# Altium schematic symbol library test_lib.SchLib: 46 symbols
Pins are listed as number, name and electrical type; pins without a type are passive.

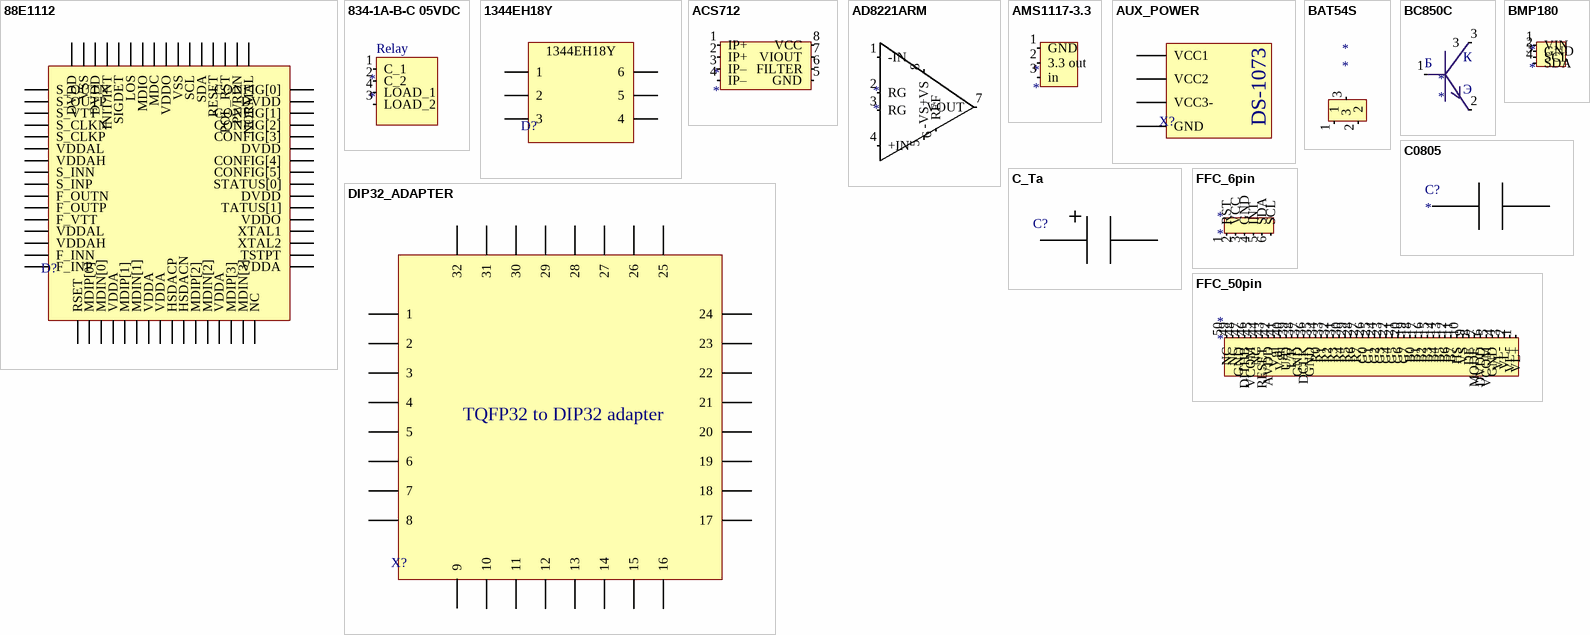
[diagram p0: symbols 88E1112 to FFC_50pin]

## 88E1112
designator D?  (value not drawn)
PHY Ethernet Transceiver
footprint 88E1112 (Ethernet Transceiver)
pins: 1 S_OUTN, 2 S_OUTP, 3 S_VTT, 4 S_CLKN, 5 S_CLKP, 6 VDDAL, 7 VDDAH, 8 S_INN, 9 S_INP, 10 F_OUTN, 11 F_OUTP, 12 F_VTT, 13 VDDAL, 14 VDDAH, 15 F_INN, 16 F_INP, 17 RSET, 18 MDIP[0], 19 MDIN[0], 20 VDDA, 21 MDIP[1], 22 MDIN[1], 23 VDDA, 24 VDDA, 25 HSDACP, 26 HSDACN, 27 MDIP[2], 28 MDIN[2], 29 VDDA, 30 MDIP[3], 31 MDIN[3], 32 NC, 33 VDDA, 34 TSTPT, 35 XTAL2, 36 XTAL1, 37 VDDO, 38 TATUS[1], 39 DVDD, 40 STATUS[0], 41 CONFIG[5], 42 CONFIG[4], 43 DVDD, 44 CONFIG[3], 45 CONFIG[2], 46 CONFIG[1], 47 DVDD, 48 CONFIG[0], 49 NORMAL, 50 PWRDN, 51 POL_RST, 52 RESET, 53 SDA, 54 SCL, 55 VSS, 56 VDDO, 57 MDC, 58 MDIO, 59 LOS, 60 SIGDET, 61 INIT/INT, 62 DVDD, 63 VSS, 64 DVDD

## 834-1A-B-C 05VDC
designator *
Relay 5V 12A
footprint 834-1A-B-C 05VDC (Relay 5B 10A)
pins: 1 C_1, 2 C_2, 3 LOAD_2, 4 LOAD_1
text: Relay

## 1344EH18Y
designator D?
footprint 1344EH18Y
pins: 1, 2, 3, 4, 5, 6

## ACS712
designator *
Fully Integrated, Hall Effect-Based Linear Current Sensor
footprint SOIC-8 (SOIC, 8-Leads, Body 4,90x3,90mm, Pitch 1,27mm, IPC Medium Density)
pins: 1 IP+, 2 IP+, 3 IP–, 4 IP–, 5 GND, 6 FILTER, 7 VIOUT, 8 VCC

## AD8221ARM
designator *
pins: 1 -IN, 2 RG, 3 RG, 4 +IN, 5 -VS, 6 REF, 7 VOUT, 8 +VS

## AMS1117-3.3
designator *
LDO 3.3V 0.8A
pins: 1 GND, 2 3.3 out, 3 in

## AUX_POWER
designator X?  (value not drawn)
auxiliary power port
footprint AUX_POWER (auxiliary power port)
pins: 1 VCC1, 2 VCC2, 3 VCC3-, 4 GND
text: DS-1073

## BAT54S
designator *
footprint sot23
pins: 1, 2, 3

## BC850C
designator *
The BC850C is a NPN general purpose Transistor with 3 leads.
pins: 1 B, 2, 3
text: К; Б; Э

## BMP180
designator *
Pressure sensor
footprint PLS-4
pins: 1 VIN, 2 GND, 3 SCL, 4 SDA

## C0805
designator C?
0805 ceramic capacitor; Capacity: *
footprint 0805
pins: 1, 2

## C_Ta
designator C?  (value not drawn)
tantalum capacitor
footprint C_Ta
pins: 1, 2

## DIP32_ADAPTER
designator X?  (value not drawn)
footprint DIP_ADAPTER
pins: 1, 2, 3, 4, 5, 6, 7, 8, 9, 10, 11, 12, 13, 14, 15, 16, 17, 18, 19, 20, 21, 22, 23, 24, 25, 26, 27, 28, 29, 30, 31, 32
text: TQFP32 to DIP32 adapter

## FFC_6pin
designator *
pins: 1 RST, 2 VCC, 3 GND, 4 INT, 5 SDA, 6 SCL

## FFC_50pin
designator *
footprint FFC_50pin (display connector)
pins: 1 VL+, 2 VL+, 3 VL-, 4 VL-, 5 GND, 6 VCOM, 7 DVDD, 8 MODE, 9 DE, 10 VS, 11 HS, 12 B7, 13 B6, 14 B5, 15 B4, 16 B3, 17 B2, 18 B1, 19 B0, 20 G7, 21 G6, 22 G5, 23 G4, 24 G3, 25 G2, 26 G1, 27 G0, 28 R7, 29 R6, 30 R5, 31 R4, 32 R3, 33 R2, 34 R1, 35 R0, 36 GND, 37 DCLK, 38 GND, 39 L/R, 40 U/D, 41 Vgh, 42 Vgl, 43 AVDD, 44 RESET, 45 NC, 46 VCOM, 47 DITHB, 48 GND, 49 NC, 50 NC

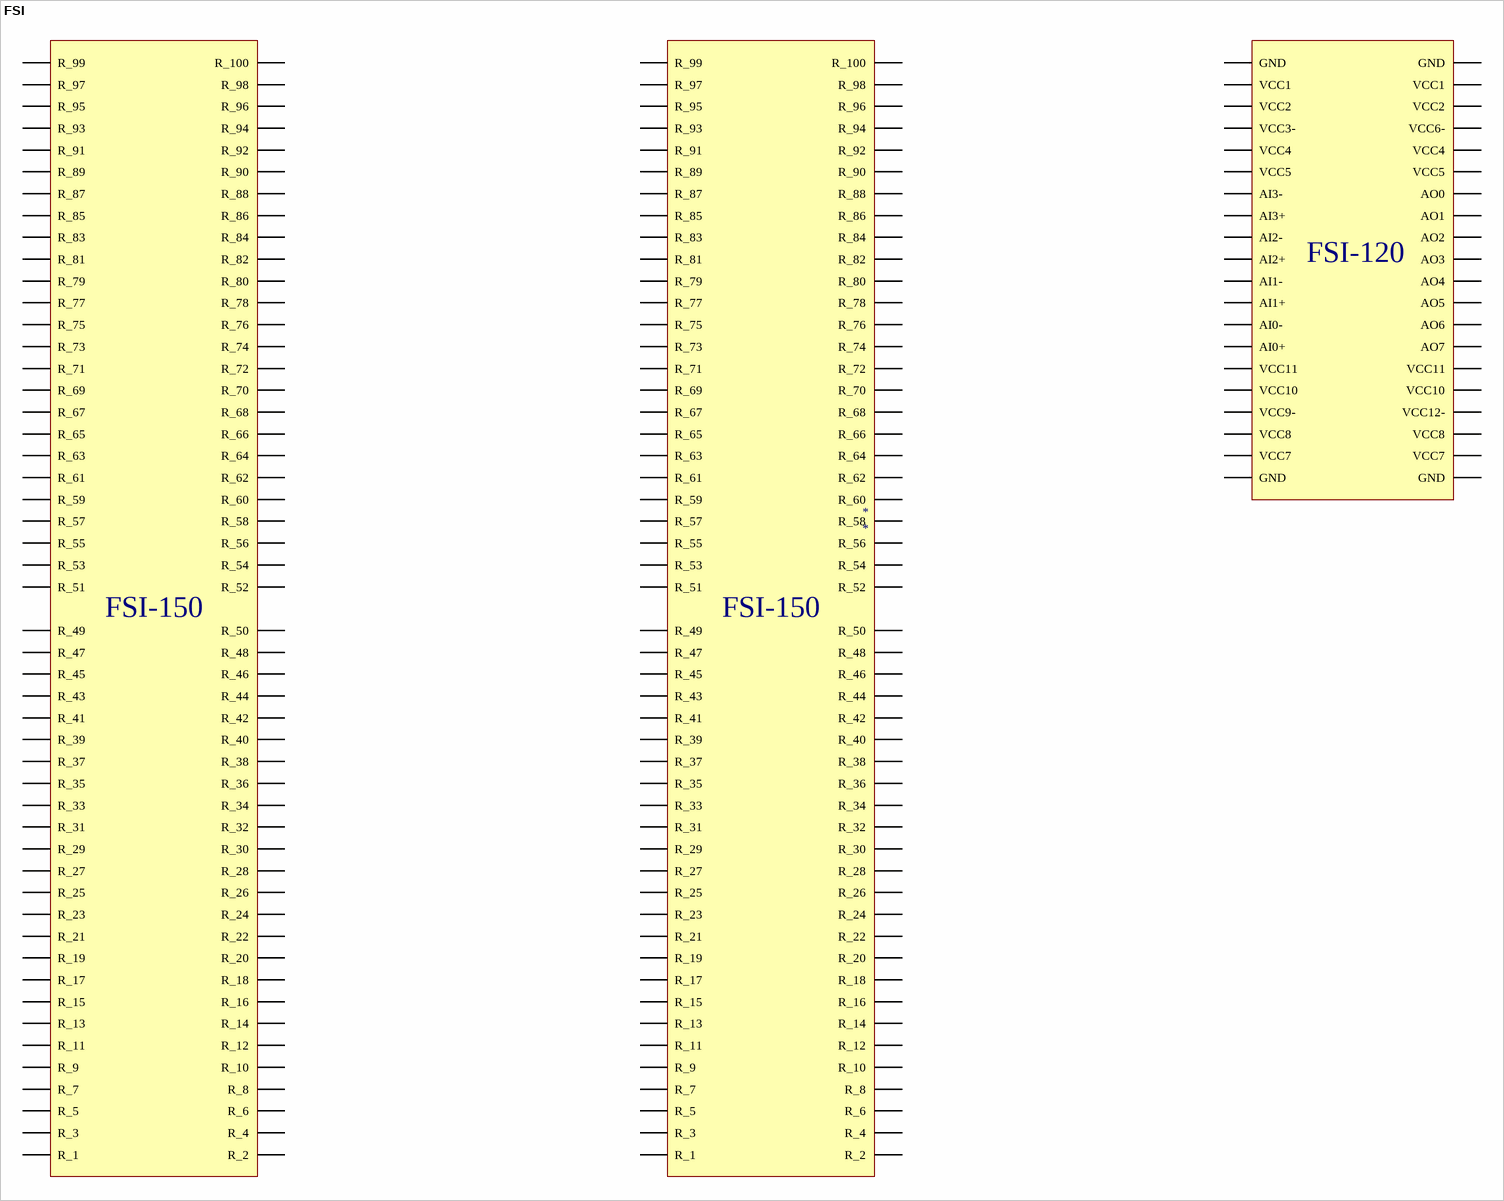
[diagram p1: symbol FSI]

## FSI
designator *
footprint FSI
pins: 1 GND, 2 VCC7, 3 VCC8, 4 VCC9-, 5 VCC10, 6 VCC11, 7 AI0+, 8 AI0-, 9 AI1+, 10 AI1-, 11 AI2+, 12 AI2-, 13 AI3+, 14 AI3-, 15 VCC5, 16 VCC4, 17 VCC3-, 18 VCC2, 19 VCC1, 20 GND, 21 GND, 22 VCC1, 23 VCC2, 24 VCC6-, 25 VCC4, 26 VCC5, 27 AO0, 28 AO1, 29 AO2, 30 AO3, 31 AO4, 32 AO5, 33 AO6, 34 AO7, 35 VCC11, 36 VCC10, 37 VCC7, 38 VCC8, 39 VCC12-, 40 GND, 41 R_1, 42 R_2, 43 R_3, 44 R_4, 45 R_5, 46 R_6, 47 R_7, 48 R_8, 49 R_9, 50 R_10, 51 R_11, 52 R_12, 53 R_13, 54 R_14, 55 R_15, 56 R_16, 57 R_17, 58 R_18, 59 R_19, 60 R_20, 61 R_21, 62 R_22, 63 R_23, 64 R_24, 65 R_25, 66 R_26, 67 R_27, 68 R_28, 69 R_29, 70 R_30, 71 R_31, 72 R_32, 73 R_33, 74 R_34, 75 R_35, 76 R_36, 77 R_37, 78 R_38, 79 R_39, 80 R_40, 81 R_41, 82 R_42, 83 R_43, 84 R_44, 85 R_45, 86 R_46, 87 R_47, 88 R_48, 89 R_49, 90 R_50, 91 R_51, 92 R_52, 93 R_53, 94 R_54, 95 R_55, 96 R_56, 97 R_57, 98 R_58, 99 R_59, 100 R_60, 101 R_61, 102 R_62, 103 R_63, 104 R_64, 105 R_65, 106 R_66, 107 R_67, 108 R_68, 109 R_69, 110 R_70, 111 R_71, 112 R_72, 113 R_73, 114 R_74, 115 R_75, 116 R_76, 117 R_77, 118 R_78, 119 R_79, 120 R_80, 121 R_81, 122 R_82, 123 R_83, 124 R_84, 125 R_85, 126 R_86, 127 R_87, 128 R_88, 129 R_89, 130 R_90, 131 R_91, 132 R_92, 133 R_93, 134 R_94, 135 R_95, 136 R_96, 137 R_97, 138 R_98, 139 R_99, 140 R_100, 141 R_1, 142 R_2, 143 R_3, 144 R_4, 145 R_5, 146 R_6, 147 R_7, 148 R_8, 149 R_9, 150 R_10, 151 R_11, 152 R_12, 153 R_13, 154 R_14, 155 R_15, 156 R_16, 157 R_17, 158 R_18, 159 R_19, 160 R_20, 161 R_21, 162 R_22, 163 R_23, 164 R_24, 165 R_25, 166 R_26, 167 R_27, 168 R_28, 169 R_29, 170 R_30, 171 R_31, 172 R_32, 173 R_33, 174 R_34, 175 R_35, 176 R_36, 177 R_37, 178 R_38, 179 R_39, 180 R_40, 181 R_41, 182 R_42, 183 R_43, 184 R_44, 185 R_45, 186 R_46, 187 R_47, 188 R_48, 189 R_49, 190 R_50, 191 R_51, 192 R_52, 193 R_53, 194 R_54, 195 R_55, 196 R_56, 197 R_57, 198 R_58, 199 R_59, 200 R_60, 201 R_61, 202 R_62, 203 R_63, 204 R_64, 205 R_65, 206 R_66, 207 R_67, 208 R_68, 209 R_69, 210 R_70, 211 R_71, 212 R_72, 213 R_73, 214 R_74, 215 R_75, 216 R_76, 217 R_77, 218 R_78, 219 R_79, 220 R_80, 221 R_81, 222 R_82, 223 R_83, 224 R_84, 225 R_85, 226 R_86, 227 R_87, 228 R_88, 229 R_89, 230 R_90, 231 R_91, 232 R_92, 233 R_93, 234 R_94, 235 R_95, 236 R_96, 237 R_97, 238 R_98, 239 R_99, 240 R_100
text: FSI-120; FSI-150

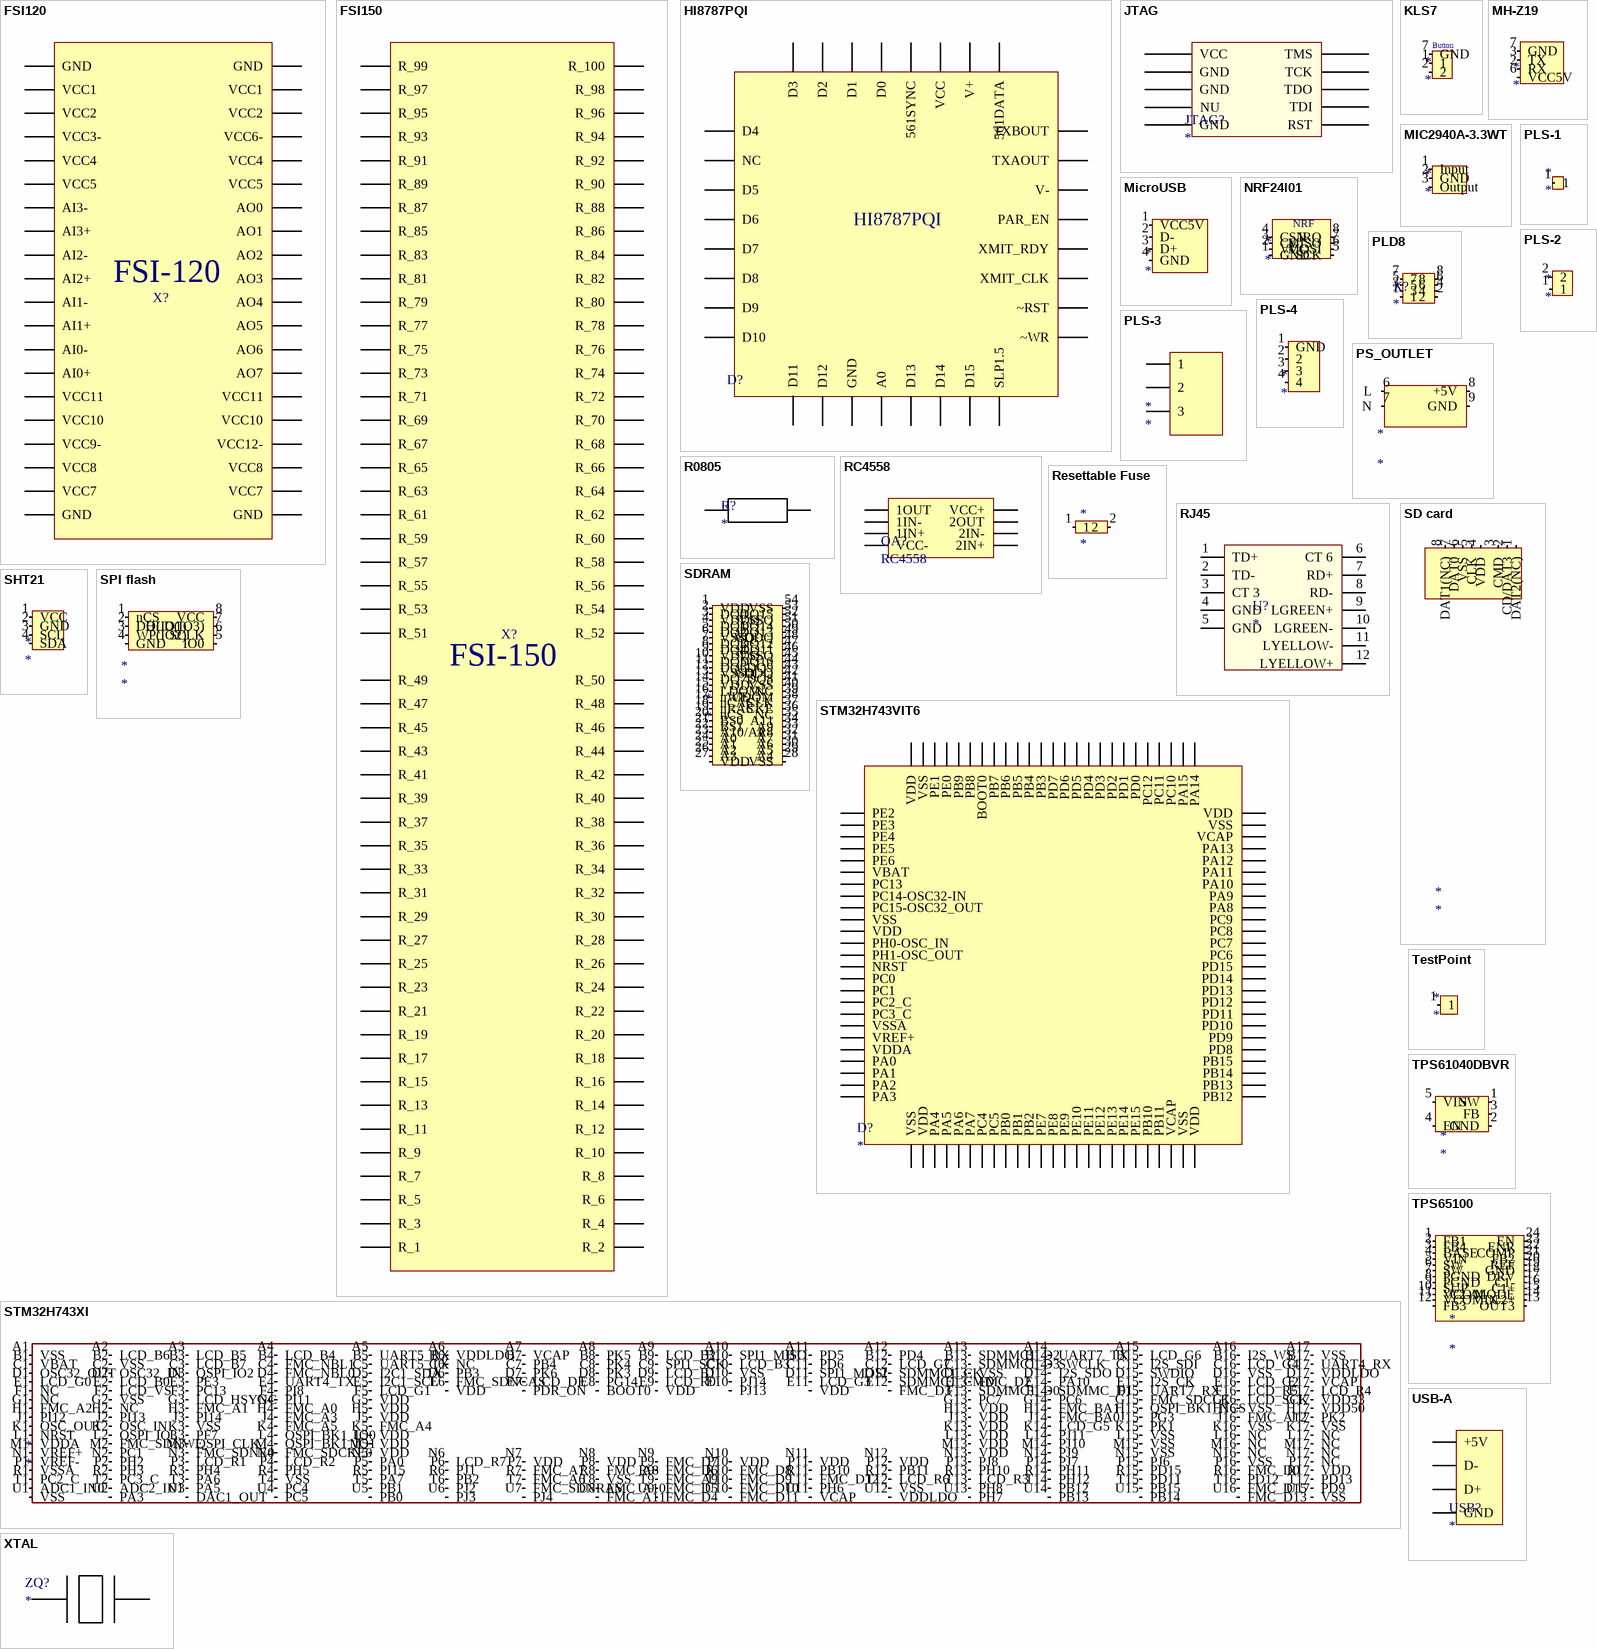
[diagram p2: symbols FSI120 to XTAL]

## FSI120
designator X?  (value not drawn)
footprint FSI-120
pins: 1 GND, 2 VCC7, 3 VCC8, 4 VCC9-, 5 VCC10, 6 VCC11, 7 AI0+, 8 AI0-, 9 AI1+, 10 AI1-, 11 AI2+, 12 AI2-, 13 AI3+, 14 AI3-, 15 VCC5, 16 VCC4, 17 VCC3-, 18 VCC2, 19 VCC1, 20 GND, 21 GND, 22 VCC1, 23 VCC2, 24 VCC6-, 25 VCC4, 26 VCC5, 27 AO0, 28 AO1, 29 AO2, 30 AO3, 31 AO4, 32 AO5, 33 AO6, 34 AO7, 35 VCC11, 36 VCC10, 37 VCC7, 38 VCC8, 39 VCC12-, 40 GND
text: FSI-120

## FSI150
designator X?  (value not drawn)
footprint FSI-150
pins: R_1, R_2, R_3, R_4, R_5, R_6, R_7, R_8, R_9, R_10, R_11, R_12, R_13, R_14, R_15, R_16, R_17, R_18, R_19, R_20, R_21, R_22, R_23, R_24, R_25, R_26, R_27, R_28, R_29, R_30, R_31, R_32, R_33, R_34, R_35, R_36, R_37, R_38, R_39, R_40, R_41, R_42, R_43, R_44, R_45, R_46, R_47, R_48, R_49, R_50, R_51, R_52, R_53, R_54, R_55, R_56, R_57, R_58, R_59, R_60, R_61, R_62, R_63, R_64, R_65, R_66, R_67, R_68, R_69, R_70, R_71, R_72, R_73, R_74, R_75, R_76, R_77, R_78, R_79, R_80, R_81, R_82, R_83, R_84, R_85, R_86, R_87, R_88, R_89, R_90, R_91, R_92, R_93, R_94, R_95, R_96, R_97, R_98, R_99, R_100
text: FSI-150

## HI8787PQI
designator D?  (value not drawn)
footprint HI8787PQI
pins: 1 D4, 2 NC, 3 D5, 4 D6, 5 D7, 6 D8, 7 D9, 8 D10, 9 D11, 10 D12, 11 GND, 12 A0, 13 D13, 14 D14, 15 D15, 16 SLP1.5, 17 ~WR, 18 ~RST, 19 XMIT_CLK, 20 XMIT_RDY, 21 PAR_EN, 22 V-, 23 TXAOUT, 24 TXBOUT, 25 561DATA, 26 V+, 27 VCC, 28 561SYNC, 29 D0, 30 D1, 31 D2, 32 D3

## JTAG
designator JTAG?
jtag pld
footprint JTAG_PLD
footprint PLD-8 (2.54)
pins: 1 VCC, 2 TMS, 3 GND, 4 TCK, 5 GND, 6 TDO, 7 NU, 8 TDI, 9 GND, 10 RST

## KLS7
designator *
footprint angle_button (KLS7-TS6606)
pins: 1, 2, 7 GND
text: Button

## MH-Z19
designator *
footprint MH-Z19 (Infrared CO2 Module)
pins: 2 RX, 3 TX, 6 VCC5V, 7 GND

## MIC2940A-3.3WT
designator *
1.25A Low Dropout Voltage Regulator
footprint PLS-3
pins: 1 Input, 2 GND, 3 Output

## MicroUSB
designator *
KLS1-233-0-0-1-T
footprint MICRO_USB (smd micro usb connector)
pins: 1 VCC5V, 2 D-, 3 D+, 4 GND

## NRF24l01
designator *
RF module
footprint PLD-8 (2.54)
pins: 1 GND, 2 VCC, 3 CE, 4 CSN, 5 SCK, 6 MOSI, 7 MISO, 8 IRQ
text: NRF

## PLD8
designator X?
footprint PLD-8 (2.54)
pins: 1, 2, 3, 4, 5, 6, 7, 8

## PLS-1
designator *
footprint pls-1
pins: 1

## PLS-2
designator *
footprint PLS-2
pins: 1, 2

## PLS-3
designator *
footprint PLS-3
pins: 1, 2, 3

## PLS-4
designator *
footprint PLS-4
pins: 1 GND, 2, 3, 4

## PS_OUTLET
designator *
footprint PS_OUTLET
pins: 6 L, 7 N, 8 +5V, 9 GND

## R0805
designator R?
0805 resistor; Resistance: *
footprint 0805
pins: 1, 2

## RC4558
designator OA?
opamp, ssop8 package
footprint RC4558 (TSOP, 8-Leads, RC4558 operation amplifier)
pins: 1 1OUT, 2 1IN-, 3 1IN+, 4 VCC-, 5 2IN+, 6 2IN-, 7 2OUT, 8 VCC+

## Resettable Fuse
designator *
MF-MSMF Series
footprint Resettable Fuse (MF-MSMF)
pins: 1, 2

## RJ45
designator U?
footprint KLS12-TL051 (RJ45 with magnetics)
pins: 1 TD+, 2 TD-, 3 CT 3, 4 GND, 5 GND, 6 CT 6, 7 RD+, 8 RD-, 9 LGREEN+, 10 LGREEN-, 11 LYELLOW-, 12 LYELLOW+

## SD card
designator *
footprint microSDconn (7MSDH-F0-1012)
pins: 1 DAT2(NC), 2 CD/DAT3, 3 CMD, 4 VDD, 5 CLK, 6 VSS, 7 DAT0, 8 DAT1(NC)

## SDRAM
designator *
W9812G6KH
footprint SDRAM TSOP2 (W9812G6KH)
pins: 1 VDD, 2 DQ0, 3 VDDQ, 4 DQ1, 5 DQ2, 6 VSSQ, 7 DQ3, 8 DQ4, 9 VDDQ, 10 DQ5, 11 DQ6, 12 VSSQ, 13 DQ7, 14 VDD, 15 LDQM, 16 nWE, 17 nCAS, 18 nRAS, 19 nCS, 20 BS0, 21 BS1, 22 A10/AP, 23 A0, 24 A1, 25 A2, 26 A3, 27 VDD, 28 VSS, 29 A4, 30 A5, 31 A6, 32 A7, 33 A8, 34 A9, 35 A11, 36 NC, 37 CKE, 38 CLK, 39 UDQM, 40 NC, 41 VSS, 42 DQ8, 43 VDDQ, 44 DQ9, 45 DQ10, 46 VSSQ, 47 DQ11, 48 DQ12, 49 VDDQ, 50 DQ13, 51 DQ14, 52 VSSQ, 53 DQ15, 54 VSS

## SHT21
designator *
Temp and hum i2c sensor
footprint PLS-4
pins: 1 VCC, 2 GND, 3 SCL, 4 SDA

## SPI flash
designator *
footprint SOP127P600-8N (spi flash)
pins: 1 nCS, 2 DO(IO1), 3 WP(IO2), 4 GND, 5 IO0, 6 SCLK, 7 HLD(IO3), 8 VCC

## STM32H743VIT6
designator D?
32-bit cortex m7 uc
footprint STM32H743VIT6 (cortex m7 uc)
pins: 1 PE2, 2 PE3, 3 PE4, 4 PE5, 5 PE6, 6 VBAT, 7 PC13, 8 PC14-OSC32-IN, 9 PC15-OSC32_OUT, 10 VSS, 11 VDD, 12 PH0-OSC_IN, 13 PH1-OSC_OUT, 14 NRST, 15 PC0, 16 PC1, 17 PC2_C, 18 PC3_C, 19 VSSA, 20 VREF+, 21 VDDA, 22 PA0, 23 PA1, 24 PA2, 25 PA3, 26 VSS, 27 VDD, 28 PA4, 29 PA5, 30 PA6, 31 PA7, 32 PC4, 33 PC5, 34 PB0, 35 PB1, 36 PB2, 37 PE7, 38 PE8, 39 PE9, 40 PE10, 41 PE11, 42 PE12, 43 PE13, 44 PE14, 45 PE15, 46 PB10, 47 PB11, 48 VCAP, 49 VSS, 50 VDD, 51 PB12, 52 PB13, 53 PB14, 54 PB15, 55 PD8, 56 PD9, 57 PD10, 58 PD11, 59 PD12, 60 PD13, 61 PD14, 62 PD15, 63 PC6, 64 PC7, 65 PC8, 66 PC9, 67 PA8, 68 PA9, 69 PA10, 70 PA11, 71 PA12, 72 PA13, 73 VCAP, 74 VSS, 75 VDD, 76 PA14, 77 PA15, 78 PC10, 79 PC11, 80 PC12, 81 PD0, 82 PD1, 83 PD2, 84 PD3, 85 PD4, 86 PD5, 87 PD6, 88 PD7, 89 PB3, 90 PB4, 91 PB5, 92 PB6, 93 PB7, 94 BOOT0, 95 PB8, 96 PB9, 97 PE0, 98 PE1, 99 VSS, 100 VDD

## STM32H743XI
designator *
footprint STM32H742xI (TFBGA240+25)
pins: A1 VSS, A2 LCD_B6, A3 LCD_B5, A4 LCD_B4, A5 UART5_RX, A6 VDDLDO, A7 VCAP, A8 PK5, A9 LCD_B2, A10 SPI1_MISO, A11 PD5, A12 PD4, A13 SDMMC1_D2, A14 UART7_TX, A15 LCD_G6, A16 I2S_WS, A17 VSS, B1 VBAT, B2 VSS, B3 LCD_B7, B4 FMC_NBL1, B5 UART5_TX, B6 NC, B7 PB4, B8 PK4, B9 SPI1_SCK, B10 LCD_B3, B11 PD6, B12 LCD_G7, B13 SDMMC1_D3, B14 SWCLK, B15 I2S_SDI, B16 LCD_G4, B17 UART4_RX, C1 OSC32_OUT, C2 OSC32_IN, C3 QSPI_IO2, C4 FMC_NBL0, C5 I2C1_SDA, C6 PB3, C7 PK6, C8 PK3, C9 LCD_B1, C10 VSS, C11 SPI1_MOSI, C12 SDMMC1_CK, C13 VSS, C14 I2S_SDO, C15 SWDIO, C16 VSS, C17 VDDLDO, D1 LCD_G0, D2 LCD_B0, D3 PE3, D4 UART4_TX, D5 I2C1_SCL, D6 FMC_SDNCAS, D7 LCD_DE, D8 PG14, D9 LCD_R0, D10 PJ14, D11 LCD_G3, D12 SDMMC1_CMD, D13 FMC_D2, D14 PA10, D15 I2S_CK, D16 LCD_G2, D17 VCAP, E1 NC, E2 LCD_VS, E3 PC13, E4 PI8, E5 LCD_G1, E6 VDD, E7 PDR_ON, E8 BOOT0, E9 VDD, E10 PJ13, E11 VDD, E12 FMC_D3, E13 SDMMC1_D0, E14 SDMMC_D1, E15 UART7_RX, E16 LCD_R5, E17 LCD_R4, F1 NC, F2 VSS, F3 LCD_HSYNC, F4 PI11, F5 VDD, F13 PC7, F14 PC6, F15 FMC_SDCLK, F16 LCD_SCK, F17 VDD33, G1 FMC_A2, G2 NC, G3 FMC_A1, G4 FMC_A0, G5 VDD, G13 VDD, G14 FMC_BA1, G15 QSPI_BK1_NCS, G16 VSS, G17 VDD50, H1 PI12, H2 PI13, H3 PI14, H4 FMC_A3, H5 VDD, H13 VDD, H14 FMC_BA0, H15 PG3, H16 FMC_A12, H17 PK2, J1 OSC_OUT, J2 OSC_IN, J3 VSS, J4 FMC_A5, J5 FMC_A4, J13 VDD, J14 LCD_G5, J15 PK1, J16 VSS, J17 VSS, K1 NRST, K2 QSPI_IO3, K3 PF7, K4 QSPI_BK1_IO0, K5 VDD, K13 VDD, K14 PJ11, K15 VSS, K16 NC, K17 NC, L1 VDDA, L2 FMC_SDNWE, L3 QSPI_CLK, L4 QSPI_BK1_IO1, L5 VDD, L13 VDD, L14 PJ10, L15 VSS, L16 NC, L17 NC, M1 VREF+, M2 PC1, M3 FMC_SDNE0, M4 FMC_SDCKE0, M5 VDD, M13 VDD, M14 PJ9, M15 VSS, M16 NC, M17 NC, N1 VREF-, N2 PH2, N3 LCD_R1, N4 LCD_R2, N5 PA0, N6 LCD_R7, N7 VDD, N8 VDD, N9 FMC_D7, N10 VDD, N11 VDD, N12 VDD, N13 PJ8, N14 PJ7, N15 PJ6, N16 VSS, N17 NC, P1 VSSA, P2 PH3, P3 PH4, P4 PH5, P5 PI15, P6 PJ1, P7 FMC_A7, P8 FMC_A8, P9 FMC_D6, P10 FMC_D8, P11 PB10, P12 PB11, P13 PH10, P14 PH11, P15 PD15, P16 FMC_D0, P17 VDD, R1 PC2_C, R2 PC3_C, R3 PA6, R4 VSS, R5 PA7, R6 PB2, R7 FMC_A6, R8 VSS, R9 FMC_A9, R10 FMC_D9, R11 FMC_D12, R12 LCD_R6, R13 LCD_R3, R14 PH12, R15 PD11, R16 PD12, R17 PD13, T1 ADC1_IN0, T2 ADC2_IN1, T3 PA5, T4 PC4, T5 PB1, T6 PJ2, T7 FMC_SDNRAS, T8 FMC_A10, T9 FMC_D5, T10 FMC_D10, T11 PH6, T12 VSS, T13 PH8, T14 PB12, T15 PB15, T16 FMC_D15, T17 PD9, U1 VSS, U2 PA3, U3 DAC1_OUT, U4 PC5, U5 PB0, U6 PJ3, U7 PJ4, U8 FMC_A11, U9 FMC_D4, U10 FMC_D11, U11 VCAP, U12 VDDLDO, U13 PH7, U14 PB13, U15 PB14, U16 FMC_D13, U17 VSS

## TestPoint
designator *
footprint TestPoint2x2mm
pins: 1

## TPS61040DBVR
designator *
LED DRIVER
footprint sot-23-5
pins: 1 SW, 2 GND, 3 FB, 4 EN, 5 VIN

## TPS65100
designator *
LCD POWER DRIVER
footprint TPS6510 (LCD_power_driver)
pins: 1 FB1, 2 FB4, 3 BASE, 4 VIN, 5 SW, 6 SW, 7 PGND, 8 PGND, 9 SUP, 10 VCOM, 11 VCOMIN, 12 FB3, 13 OUT3, 14 C2+, 15 C2-/MODE, 16 C1+, 17 C1-, 18 DRV, 19 GND, 20 REF, 21 FB2, 22 COMP, 23 ENR, 24 EN

## USB-A
designator USB?
usb-a female header
footprint MICRO_USB (smd micro usb connector)
pins: 1 +5V, 2 D-, 3 D+, 4 GND

## XTAL
designator ZQ?
Frequency: *
footprint XTAL
pins: 1, 2